# EAGLE library part JN5139-XXX-M00 (library jennic_module)
JN5139-xxx-M00, Jennic zigbee surface mount module with an integrated antenna, JN5139-xxx-M01/M03 with an antenna connector. http://www.jennic.com/download_file.php?supportFile=JN-DS-JN5139MO-1v5.pdf
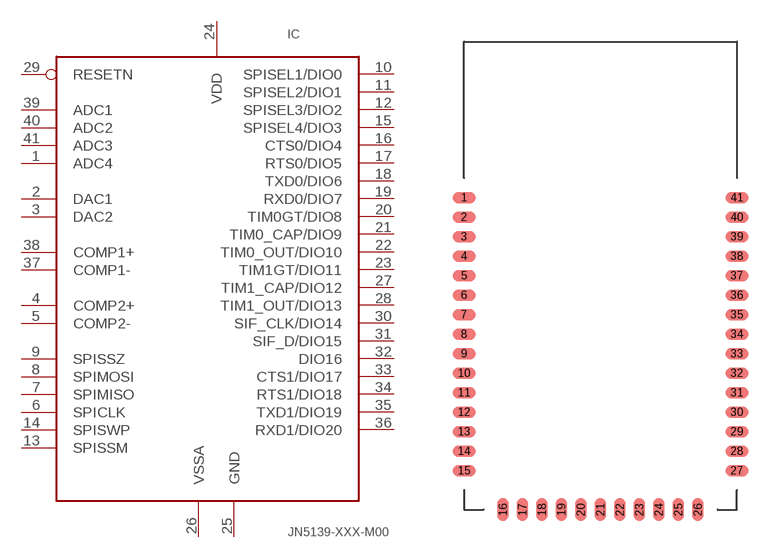
[diagram p1: symbol with the pads of JN5139-XXX-M00; footprint JN5139-XXX-M00]

Designator prefix IC

## JN5139-XXX-M00  [JN5139-XXX-M00]
1  ADC4  in
2  DAC1  out
3  DAC2  out
4  COMP2+  in
5  COMP2-  in
6  SPICLK
7  SPIMISO
8  SPIMOSI
9  SPISSZ
10  SPISEL1/DIO0
11  SPISEL2/DIO1
12  SPISEL3/DIO2
13  SPISSM
14  SPISWP
15  SPISEL4/DIO3
16  CTS0/DIO4
17  RTS0/DIO5
18  TXD0/DIO6
19  RXD0/DIO7
20  TIM0GT/DIO8
21  TIM0_CAP/DIO9
22  TIM0_OUT/DIO10
23  TIM1GT/DIO11
24  VDD  pwr
25  GND
26  VSSA
27  TIM1_CAP/DIO12
28  TIM1_OUT/DIO13
29  RESETN  in
30  SIF_CLK/DIO14
31  SIF_D/DIO15
32  DIO16
33  CTS1/DIO17
34  RTS1/DIO18
35  TXD1/DIO19
36  RXD1/DIO20
37  COMP1-  in
38  COMP1+  in
39  ADC1  in
40  ADC2  in
41  ADC3  in

## Footprint JN5139-XXX-M00 (pad centres in mm)
smd 1.524 x 0.762: 1 -8.89,10.16; 2 -8.89,8.89; 3 -8.89,7.62; 4 -8.89,6.35; 5 -8.89,5.08; 6 -8.89,3.81; 7 -8.89,2.54; 8 -8.89,1.27; 9 -8.89,0; 10 -8.89,-1.27; 11 -8.89,-2.54; 12 -8.89,-3.81; 13 -8.89,-5.08; 14 -8.89,-6.35; 15 -8.89,-7.62; 27 8.89,-7.62; 28 8.89,-6.35; 29 8.89,-5.08; 30 8.89,-3.81; 31 8.89,-2.54; 32 8.89,-1.27; 33 8.89,0; 34 8.89,1.27; 35 8.89,2.54; 36 8.89,3.81; 37 8.89,5.08; 38 8.89,6.35; 39 8.89,7.62; 40 8.89,8.89; 41 8.89,10.16
smd 0.762 x 1.524: 16 -6.35,-10.16; 17 -5.08,-10.16; 18 -3.81,-10.16; 19 -2.54,-10.16; 20 -1.27,-10.16; 21 0,-10.16; 22 1.27,-10.16; 23 2.54,-10.16; 24 3.81,-10.16; 25 5.08,-10.16; 26 6.35,-10.16